# Altium footprint library Power_Measurement.PcbLib: 3 footprints
Each footprint in its own frame and in the unit in brackets; x right, y up, seen from the top. Pads: shape width x height; smd on the part's side, far side on the other; paste and mask are expansions set on the pad; w line width, h text height; cw(c..) or ccw(c..) is an arc to the next point about the centre after c.
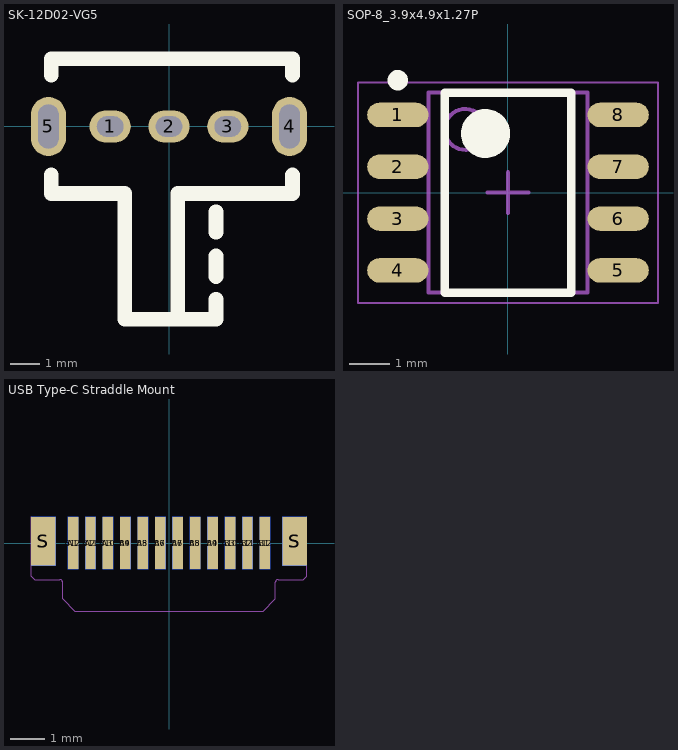
[diagram p0: the footprints below, top view; thin cyan lines are the x and y axes]

## SK-12D02-VG5 [mm] "SPDT Switch"
pads (5):
  oval 1.4x1.1 hole 0.7 slot 0.9 at 0 deg: 1(-2,0) 2(0,0) 3(2,0)
  oval 1.2x2 hole 1.5 slot 0.7 at 0 deg: 4(4.1,0) 5(-4.1,0)
Top Overlay:
  lines w0.5: -4,-1.65 -4,-2.275 -1.5,-2.275 -1.5,-6.55 0.275,-6.55 1.6,-6.55 1.6,-5.875 ; -4,1.75 -4,2.3 4.2,2.3 4.2,1.75 ; 0.3,-6.075 0.3,-6.525 0.3,-2.275 4.2,-2.275 4.2,-1.65 ; 1.6,-5.1 1.6,-4.4 ; 1.6,-3.6 1.6,-2.9

## SOP-8_3.9x4.9x1.27P [mm] "SOP, 8-Leads, Body 4.90x3.90mm, Pitch 1.27mm, IPC Medium Density"
height 1.75
pads (8):
  oval 1.5x0.6 smd: 1(-2.7,1.905) 2(-2.7,0.635) 3(-2.7,-0.635) 4(-2.7,-1.905) 5(2.7,-1.905) 6(2.7,-0.635) 7(2.7,0.635) 8(2.7,1.905)
Top Overlay:
  circle w0.25: c-2.7,2.755 r0.125
  circle w0.6: c-0.55,1.45 r0.3
  lines w0.2: -1.55,-2.45 -1.55,2.45 1.55,2.45 1.55,-2.45 -1.55,-2.45
Mechanical 13:
  circle w0.1: c-1.05,1.55 r0.5
  lines w0.1: -1.95,-2.45 -1.95,2.45 1.95,2.45 1.95,-2.45 -1.95,-2.45
Mechanical 15:
  lines w0.05: -3.675,-2.7 -3.675,2.7 3.675,2.7 3.675,-2.7 -3.675,-2.7
  lines w0.1: -0.5,0 0.5,0 ; 0,-0.5 0,0.5
3D body: height 1.75, standoff 0.1, extent -1.95,-2.45 1.95,2.45

## USB Type-C Straddle Mount [mm] "USB Type-C Straddle Mount"
pads (28):
  rect 0.3x1.5 smd mask+0.05: A1(-2.75,0) A2(-2.25,0) A3(-1.75,0) A4(-1.25,0) A5(-0.75,0) A6(-0.25,0) A7(0.25,0) A8(0.75,0) A9(1.25,0) A10(1.75,0) A11(2.25,0) A12(2.75,0)
  rect 0.3x1.5 smd far side mask+0.05: B1(2.75,0) B2(2.25,0) B3(1.75,0) B4(1.25,0) B5(0.75,0) B6(0.25,0) B7(-0.25,0) B8(-0.75,0) B9(-1.25,0) B10(-1.75,0) B11(-2.25,0) B12(-2.75,0)
  rect 0.7x1.4 smd mask+0.05: S(-3.6,0.05) S(3.6,0.05)
  rect 0.7x1.4 smd far side mask+0.05: S(-3.6,0.05) S(3.6,0.05)
Mechanical 13:
  lines w0.025: -3.95,0.75 -3.95,-0.95 -3.85,-1.05 -3.625,-1.05 -3.125,-1.05 cw(c-3.125,-1.125) -3.05,-1.125 -3.05,-1.275 -3.05,-1.6 -2.7,-1.95 0.7,-1.95 2.7,-1.95 3.05,-1.6 3.05,-1.275 3.05,-1.125 cw(c3.125,-1.125) 3.125,-1.05 3.625,-1.05 3.85,-1.05 3.95,-0.95 3.95,0.75